# Altium integrated library DC_DC.IntLib: 19 symbols
Pins are listed as number, name and electrical type; pins without a type are passive.

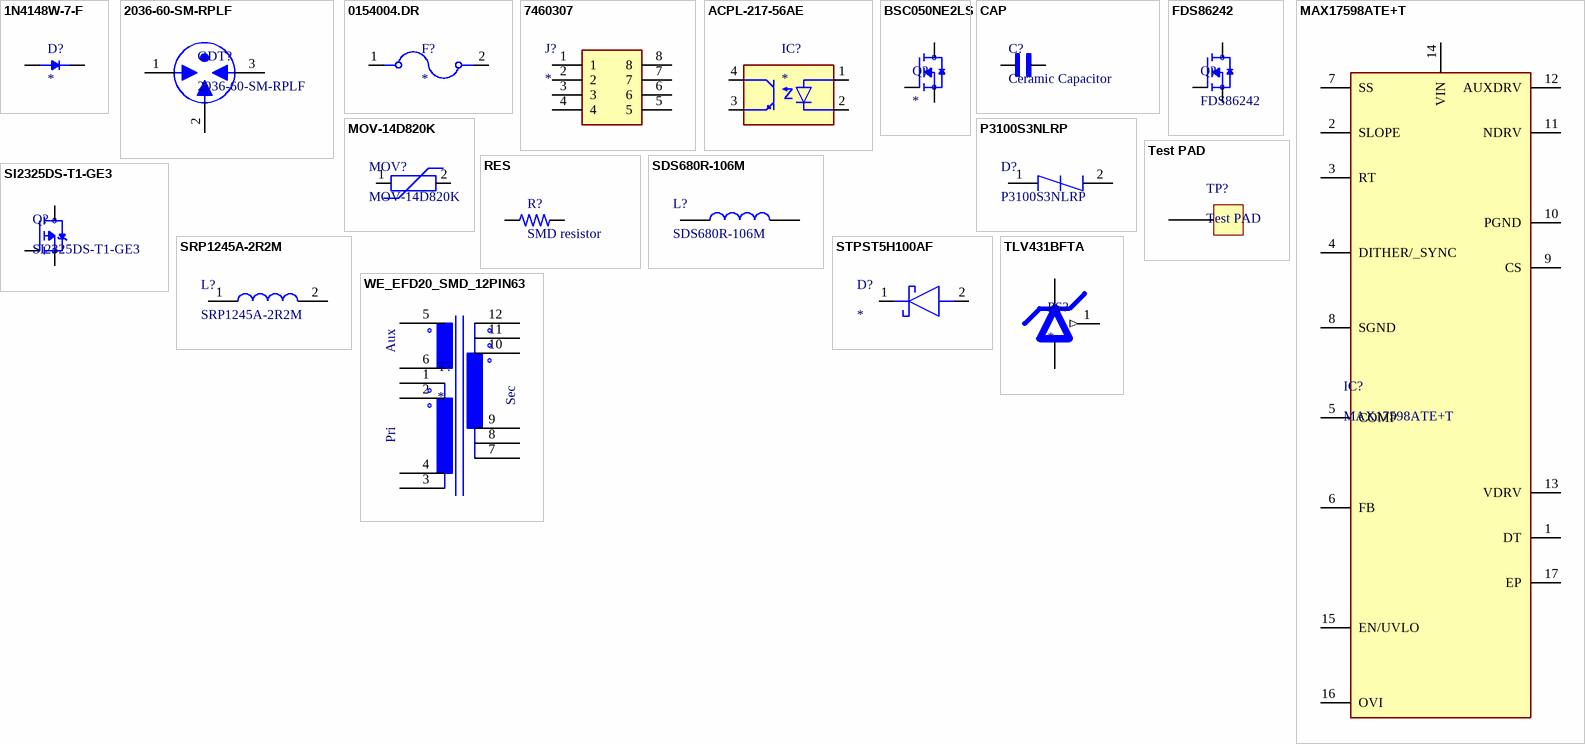
[diagram p0: symbols 1N4148W-7-F to WE_EFD20_SMD_12PIN63]

## 1N4148W-7-F
designator D?
Diode Standard 100 V 300mA (DC) Surface Mount SOD-123; MF: Diodes Inc.; MP: 1N4148W-7-F; Value: *; Availability: In Stock; Package: SOD-123 Fairchild Semiconductor; SnapEDA_Link: https://www.snapeda.com/parts/1N4148W-7-F/Diodes+Inc./view-part/?ref=snap; Price: None; Check_prices: https://www.snapeda.com/parts/1N4148W-7-F/Diodes+Inc./view-part/?ref=eda; Purchase-URL: https://pricing.snapeda.com/search/part/1N4148W-7-F/?ref=eda
footprint SOD3715X135N
pins: A, C K

## 2036-60-SM-RPLF
designator GDT?
Gas Discharge Tubes - GDTs / Gas Plasma Arrestors Sparkover100V/s 600V Miniature 3 Pole
footprint 2036-60-SM-RPLF
pins: 1 A, 2 E, 3 B

## 0154004.DR
designator F?
154/154T/154L/154TL Series OMNI-BLOKÂ® Fuse and Holder Assembly; MP: 0154004.DR; Package: None; Availability: Unavailable; Value: *; Price: None
footprint FUSE_0154004.DR
pins: 1, 2

## 7460307
designator J?
Connector; Manufacturer_Name: Wurth Elektronik; Manufacturer_Part_Number: 7460307; Datasheet Link: https://katalog.we-online.com/em/datasheet/7460307.pdf; Height: 7mm; Mouser Part Number: 710-7460307; Mouser Price/Stock: https://www.mouser.co.uk/ProductDetail/Wurth-Elektronik/7460307?qs=lykWx4dhCCG1TLZtVq%252B8cQ%3D%3D
footprint 7460307
pins: 1, 2, 3, 4, 5, 6, 7, 8

## ACPL-217-56AE
designator IC?
Integrated Circuit; Manufacturer_Name: Avago Technologies; Manufacturer_Part_Number: ACPL-217-56AE; Datasheet Link: https://docs.broadcom.com/docs/AV02-0470EN; Height: 2.42mm; Mouser Part Number: 630-ACPL-217-56AE; Mouser Price/Stock: https://www.mouser.co.uk/ProductDetail/Broadcom-Avago/ACPL-217-56AE?qs=dcm2zoLQumBcA1gigmq0vA%3D%3D
footprint SOIC127P700X242-4N
pins: 1 ANODE, 2 CATHODE, 3 EMITTER, 4 COLLECTOR

## BSC050NE2LS
designator Q?
MOSFET (N-Channel); Manufacturer_Name: Infineon; Manufacturer_Part_Number: BSC050NE2LS; Datasheet Link: https://www.infineon.com/dgdl/Infineon-BSC050NE2LS-DataSheet-v02_04-EN.pdf?fileId=db3a304326dfb1300126fb5ce0cb3f2d; Height: 1.2mm; Mouser Part Number: 726-BSC050NE2LS; Mouser Price/Stock: https://www.mouser.co.uk/ProductDetail/Infineon-Technologies/BSC050NE2LS?qs=HwMeRNENlMaXFFR8DpmvKQ%3D%3D
footprint BSC050NE2LS
pins: 1 S, 2 S, 3 S, 4 G, 5 D, 6 D, 7 D, 8 D, 9 D

## CAP
designator C?, comment Ceramic Capacitor
MP: LD03ZD475MAB2A; Package: None; Price: None; Value: *; Availability: Unavailable
footprint 0603_C
footprint 0805_C
footprint 1206_C
footprint 1210_C
pins: 1, 2

## FDS86242
designator Q?
Integrated Circuit; Manufacturer_Name: onsemi; Datasheet Link: https://datasheet.datasheetarchive.com/originals/distributors/Datasheets_SAMA/beddb12da8e05a49ab7133607c08bb07.pdf; Height: 1.75mm; Manufacturer_Part_Number: FDS86242; Mouser Part Number: 512-FDS86242; Mouser Price/Stock: https://www.mouser.co.uk/ProductDetail/ON-Semiconductor-Fairchild/FDS86242?qs=WZYOKEqGBpJo60pi1Jf2hA%3D%3D; Arrow Part Number: FDS86242; Arrow Price/Stock: https://www.arrow.com/en/products/fds86242/on-semiconductor
footprint SOIC127P600X175-8N
pins: 1 S, 2 S, 3 S, 4 G, 5 D, 6 D, 7 D, 8 D

## MAX17598ATE+T
designator IC?
Integrated Circuit; Manufacturer_Name: Analog Devices; Datasheet Link: https://www.mouser.in/datasheet/2/256/MAX17599-1513910.pdf; Height: 0.8mm; Manufacturer_Part_Number: MAX17598ATE+T; Mouser Part Number: 700-MAX17598ATE+T; Mouser Price/Stock: https://www.mouser.co.uk/ProductDetail/Maxim-Integrated/MAX17598ATE%2bT?qs=0JU57JYmZjvlV4vexIaXHA%3D%3D; Arrow Part Number: MAX17598ATE+T; Arrow Price/Stock: https://www.arrow.com/en/products/max17598atet/maxim-integrated?region=nac
footprint QFN50P300X300X80-17N
pins: 1 DT, 2 SLOPE, 3 RT, 4 DITHER/_SYNC, 5 COMP, 6 FB, 7 SS, 8 SGND, 9 CS, 10 PGND, 11 NDRV, 12 AUXDRV, 13 VDRV, 14 VIN, 15 EN/UVLO, 16 OVI, 17 EP

## MOV-14D820K
designator MOV?
Varistors 82volts 14mm; MP: MOV-14D471K; MF: Bourns; Price: None; SnapEDA_Link: https://www.snapeda.com/parts/MOV-14D471K/Bourns/view-part/?ref=snap; Package: Disc-14 Bourns; Availability: In Stock; Check_prices: https://www.snapeda.com/parts/MOV-14D471K/Bourns/view-part/?ref=eda; Purchase-URL: https://pricing.snapeda.com/search/part/MOV-14D471K/?ref=eda; Value: *
footprint MOV-14D820K
pins: 1 (io), 2 (io)

## P3100S3NLRP
designator D?
Thyristor; Manufacturer_Name: LITTELFUSE; Datasheet Link: https://eu.mouser.com/datasheet/2/240/Littelfuse-2933160.pdf; Height: 2.62mm; Manufacturer_Part_Number: P3100S3NLRP
footprint DIONM7959X262N
pins: 1, 2

## RES
designator R?, comment SMD resistor
MP: 3-1879460-6; Package: None; Price: None; Value: *; Availability: Unavailable
footprint 0603_R
footprint 0805_R
footprint 1206_R
pins: 1, 2

## SDS680R-106M
designator L?
Inductor 10mH; Manufacturer_Name: Bourns; Manufacturer_Part_Number: SRR6603-103ML; Datasheet Link: https://www.bourns.com/docs/Product-Datasheets/SRR6603.pdf; Height: 3mm; Mouser Part Number: 652-SRR6603-103ML; Mouser Price/Stock: https://www.mouser.co.uk/ProductDetail/Bourns/SRR6603-103ML?qs=Nb99Pa9xYq%252Bz9Mktch6%252BTg%3D%3D; Arrow Part Number: SRR6603-103ML; Arrow Price/Stock: https://www.arrow.com/en/products/srr6603-103ml/bourns
footprint SRR6603332ML
pins: 1, 2

## SI2325DS-T1-GE3
designator Q?
150V 0.69A 1.25W 1.2ohm at 10V; MF: Vishay Siliconix; SnapEDA_Link: https://www.snapeda.com/parts/SI2325DS-T1-GE3/Vishay+Siliconix/view-part/?ref=snap; Package: SOT-23-3 Vishay Siliconix; Value: *; MP: SI2325DS-T1-GE3; Check_prices: https://www.snapeda.com/parts/SI2325DS-T1-GE3/Vishay+Siliconix/view-part/?ref=eda
footprint SOT-23
pins: 1 G, 2 S, 3 D

## SRP1245A-2R2M
designator L?
Inductor 2.2uH; Manufacturer_Name: Bourns; Datasheet Link: https://www.bourns.com/docs/Product-Datasheets/SRP1245A.pdf; Height: 5mm; Manufacturer_Part_Number: SRP1245A-2R2M; Mouser Part Number: 652-SRP1245A-2R2M; Mouser Price/Stock: https://www.mouser.co.uk/ProductDetail/Bourns/SRP1245A-2R2M?qs=7z%252BmIopC6%2FIfpuWA3q0S0Q%3D%3D; Arrow Part Number: SRP1245A-2R2M; Arrow Price/Stock: https://www.arrow.com/en/products/srp1245a-2r2m/bourns?region=nac
footprint INDPM135125X500N
pins: 1, 2

## STPST5H100AF
designator D?
Schottky Diode; Manufacturer_Name: STMicroelectronics; Manufacturer_Part_Number: STPST5H100AF; Datasheet Link: https://www.st.com/resource/en/datasheet/stpst5h100.pdf; Height: 1.03mm; Mouser Part Number: 511-STPST5H100AF; Mouser Price/Stock: https://www.mouser.co.uk/ProductDetail/STMicroelectronics/STPST5H100AF?qs=Jm2GQyTW%2Fbg40alT%252BULHUw%3D%3D
footprint SODFL4724X103N
pins: 1 K, 2 A

## Test PAD
designator TP?
footprint Test PAD
pins: 1

## TLV431BFTA
designator PS?
Power Supply; Manufacturer_Name: Diodes Inc.; Manufacturer_Part_Number: TLV431BFTA; Datasheet Link: https://www.diodes.com/assets/Datasheets/TLV431.pdf; Height: 1mm; Mouser Part Number: 621-TLV431BFTA; Mouser Price/Stock: https://www.mouser.co.uk/ProductDetail/Diodes-Incorporated/TLV431BFTA?qs=nSryOFbzj8KLzVR2LsCcOA%3D%3D; Arrow Part Number: TLV431BFTA; Arrow Price/Stock: https://www.arrow.com/en/products/tlv431bfta/diodes-incorporated?region=europe
footprint SOT96P240X100-3N
pins: 1 REF (out), 2 CATHODE (power), 3 ANODE (power)

## WE_EFD20_SMD_12PIN63
designator T?
Transformer; Manufacturer_Name: Wurth Elektronik; Manufacturer_Part_Number: 7491194912; Mouser Part Number: 710-7491194912; Mouser Price/Stock: https://www.mouser.co.uk/ProductDetail/Wurth-Elektronik/7491194912?qs=PGXP4M47uW77qoYmvw4NKA%3D%3D
footprint WE_EFD20_SMD_12PIN63
pins: 1, 2, 3, 4, 5, 6, 7, 8, 9, 10, 11, 12
text: Aux; Sec; Pri